# EAGLE library part DP83867IRPAPT (library circuit_tree)
IC
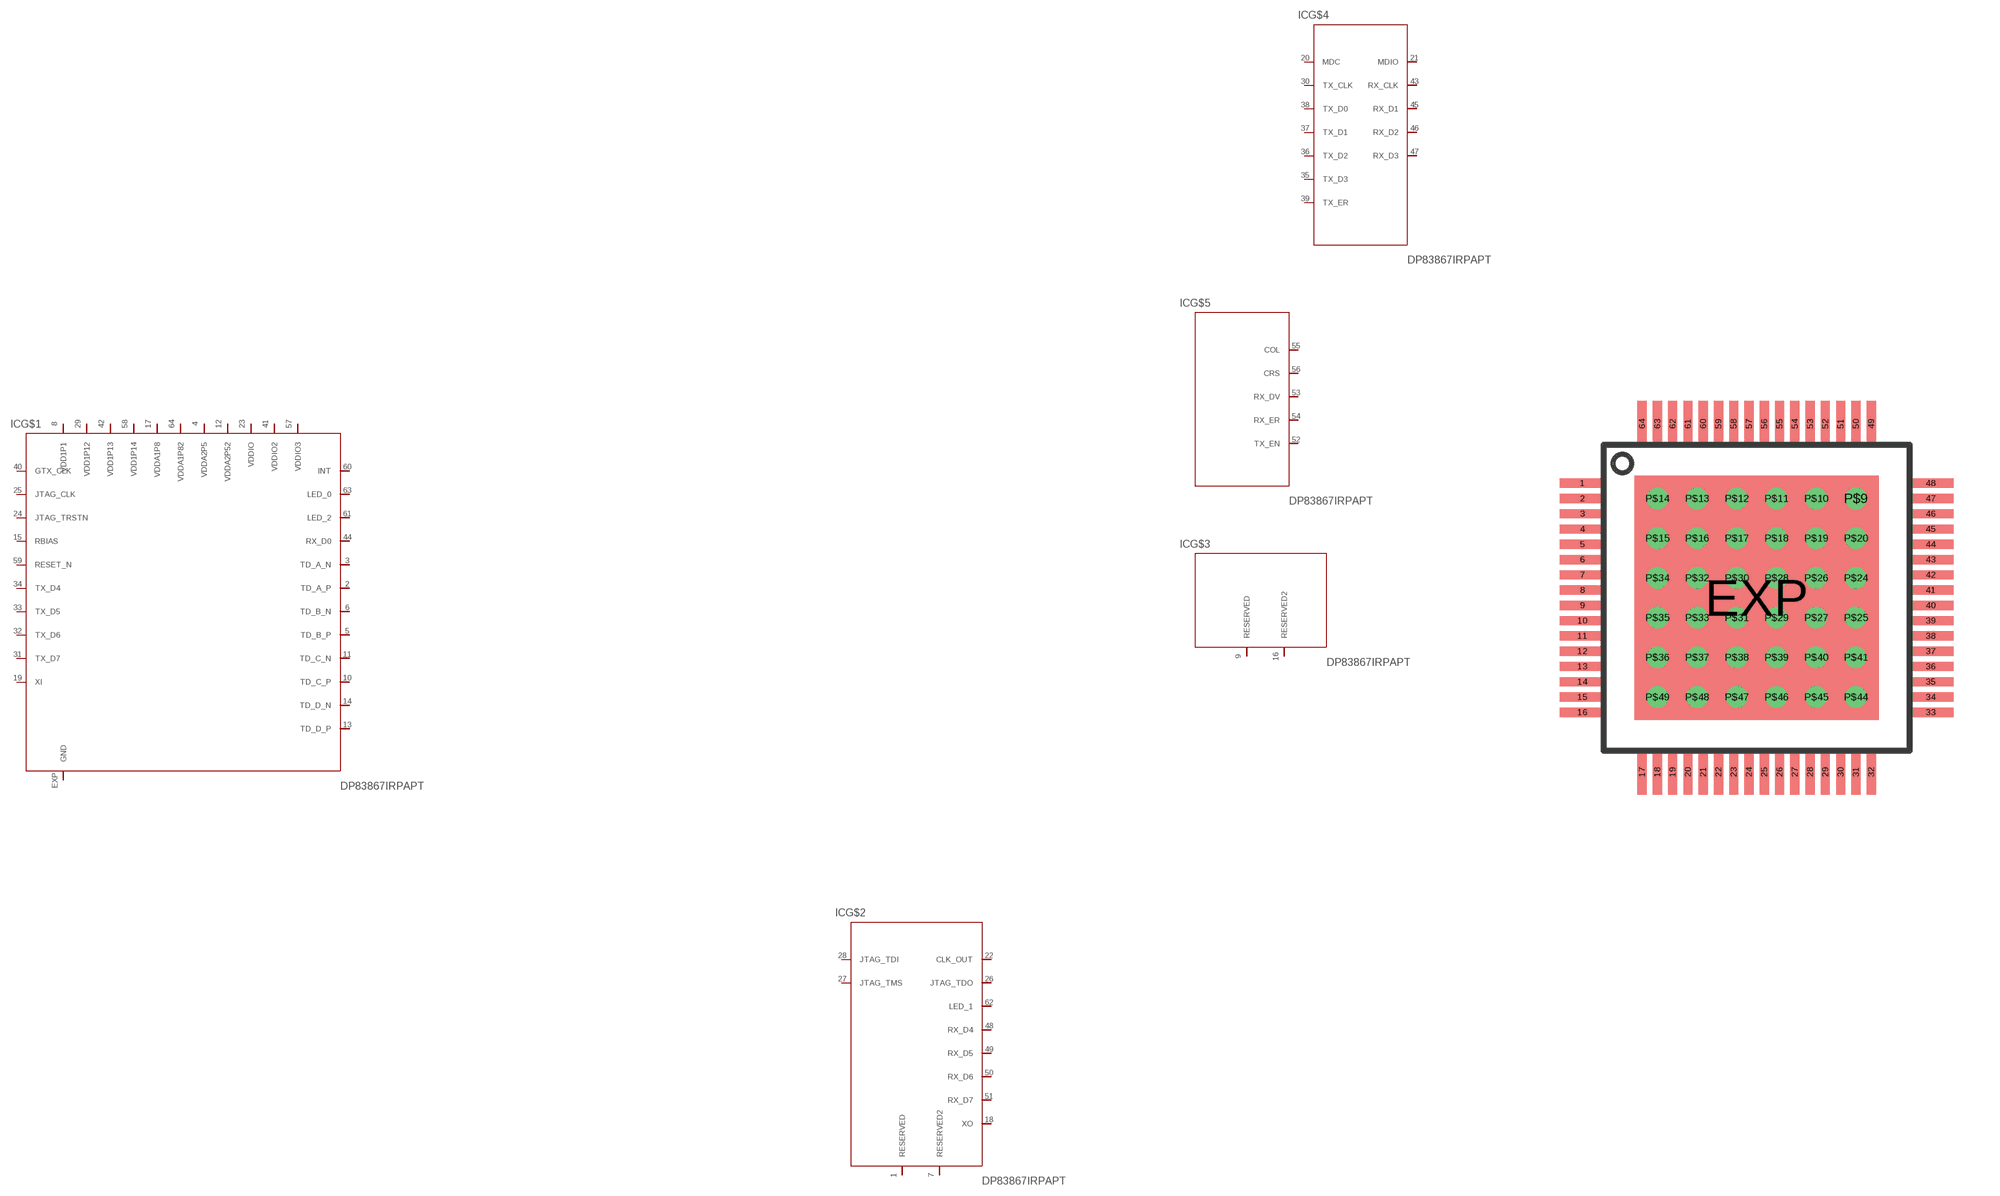
[diagram p2: symbol with the pads of HTQFP-64-EXP; footprint HTQFP-64-EXP]

Designator prefix IC; gates G$1=DP83867IRPAPT G$2=DP83867IRPAPT2 G$3=DP83867IRPAPT3 G$4=DP83867IRPAPT4 G$5=DP83867IRPAPT5

## DP83867IRPAPT  [HTQFP-64-EXP]
1  G$2:RESERVED  pas
2  G$1:TD_A_P  pas
3  G$1:TD_A_N  pas
4  G$1:VDDA2P5  pas
5  G$1:TD_B_P  pas
6  G$1:TD_B_N  pas
7  G$2:RESERVED2  pas
8  G$1:VDD1P1  pas
9  G$3:RESERVED  pas
10  G$1:TD_C_P  pas
11  G$1:TD_C_N  pas
12  G$1:VDDA2P52  pas
13  G$1:TD_D_P  pas
14  G$1:TD_D_N  pas
15  G$1:RBIAS  pas
16  G$3:RESERVED2  pas
17  G$1:VDDA1P8  pas
18  G$2:XO  pas
19  G$1:XI  pas
20  G$4:MDC  pas
21  G$4:MDIO  pas
22  G$2:CLK_OUT  pas
23  G$1:VDDIO  pas
24  G$1:JTAG_TRSTN  pas
25  G$1:JTAG_CLK  pas
26  G$2:JTAG_TDO  pas
27  G$2:JTAG_TMS  pas
28  G$2:JTAG_TDI  pas
29  G$1:VDD1P12  pas
30  G$4:TX_CLK  pas
31  G$1:TX_D7  pas
32  G$1:TX_D6  pas
33  G$1:TX_D5  pas
34  G$1:TX_D4  pas
35  G$4:TX_D3  pas
36  G$4:TX_D2  pas
37  G$4:TX_D1  pas
38  G$4:TX_D0  pas
39  G$4:TX_ER  pas
40  G$1:GTX_CLK  pas
41  G$1:VDDIO2  pas
42  G$1:VDD1P13  pas
43  G$4:RX_CLK  pas
44  G$1:RX_D0  pas
45  G$4:RX_D1  pas
46  G$4:RX_D2  pas
47  G$4:RX_D3  pas
48  G$2:RX_D4  pas
49  G$2:RX_D5  pas
50  G$2:RX_D6  pas
51  G$2:RX_D7  pas
52  G$5:TX_EN  pas
53  G$5:RX_DV  pas
54  G$5:RX_ER  pas
55  G$5:COL  pas
56  G$5:CRS  pas
57  G$1:VDDIO3  pas
58  G$1:VDD1P14  pas
59  G$1:RESET_N  pas
60  G$1:INT  pas
61  G$1:LED_2  pas
62  G$2:LED_1  pas
63  G$1:LED_0  pas
64  G$1:VDDA1P82  pas
EXP  G$1:GND  pas

## Footprint HTQFP-64-EXP (pad centres in mm)
TQFP 64 PowerPAD Package Source: www.ti.com .. slma002.pdf
smd 1.5 x 0.3: 1 -5.7,3.75; 2 -5.7,3.25; 3 -5.7,2.75; 4 -5.7,2.25; 5 -5.7,1.75; 6 -5.7,1.25; 7 -5.7,0.75; 8 -5.7,0.25; 9 -5.7,-0.25; 10 -5.7,-0.75; 11 -5.7,-1.25; 12 -5.7,-1.75; 13 -5.7,-2.25; 14 -5.7,-2.75; 15 -5.7,-3.25; 16 -5.7,-3.75; 33 5.7,-3.75; 34 5.7,-3.25; 35 5.7,-2.75; 36 5.7,-2.25; 37 5.7,-1.75; 38 5.7,-1.25; 39 5.7,-0.75; 40 5.7,-0.25; 41 5.7,0.25; 42 5.7,0.75; 43 5.7,1.25; 44 5.7,1.75; 45 5.7,2.25; 46 5.7,2.75; 47 5.7,3.25; 48 5.7,3.75
smd 0.3 x 1.5: 17 -3.75,-5.7; 18 -3.25,-5.7; 19 -2.75,-5.7; 20 -2.25,-5.7; 21 -1.75,-5.7; 22 -1.25,-5.7; 23 -0.75,-5.7; 24 -0.25,-5.7; 25 0.25,-5.7; 26 0.75,-5.7; 27 1.25,-5.7; 28 1.75,-5.7; 29 2.25,-5.7; 30 2.75,-5.7; 31 3.25,-5.7; 32 3.75,-5.7; 49 3.75,5.7; 50 3.25,5.7; 51 2.75,5.7; 52 2.25,5.7; 53 1.75,5.7; 54 1.25,5.7; 55 0.75,5.7; 56 0.25,5.7; 57 -0.25,5.7; 58 -0.75,5.7; 59 -1.25,5.7; 60 -1.75,5.7; 61 -2.25,5.7; 62 -2.75,5.7; 63 -3.25,5.7; 64 -3.75,5.7
smd 8 x 8: EXP 0,0
drill 0.2 pad 0.3: P$9 3.25,3.25; P$10 1.95,3.25; P$11 0.65,3.25; P$12 -0.65,3.25; P$13 -1.95,3.25; P$14 -3.25,3.25; P$15 -3.25,1.95; P$16 -1.95,1.95; P$17 -0.65,1.95; P$18 0.65,1.95; P$19 1.95,1.95; P$20 3.25,1.95; P$24 3.25,0.65; P$25 3.25,-0.65; P$26 1.95,0.65; P$27 1.95,-0.65; P$28 0.65,0.65; P$29 0.65,-0.65; P$30 -0.65,0.65; P$31 -0.65,-0.65; P$32 -1.95,0.65; P$33 -1.95,-0.65; P$34 -3.25,0.65; P$35 -3.25,-0.65; P$36 -3.25,-1.95; P$37 -1.95,-1.95; P$38 -0.65,-1.95; P$39 0.65,-1.95; P$40 1.95,-1.95; P$41 3.25,-1.95; P$44 3.25,-3.25; P$45 1.95,-3.25; P$46 0.65,-3.25; P$47 -0.65,-3.25; P$48 -1.95,-3.25; P$49 -3.25,-3.25